# EAGLE library part 66202421122 (library Wuerth_Elektronik_eiCan_08_Micro_Power_Connectors)
WR-MPC3 3.00mm Male Dual Row Vertical Header, 24 Pins
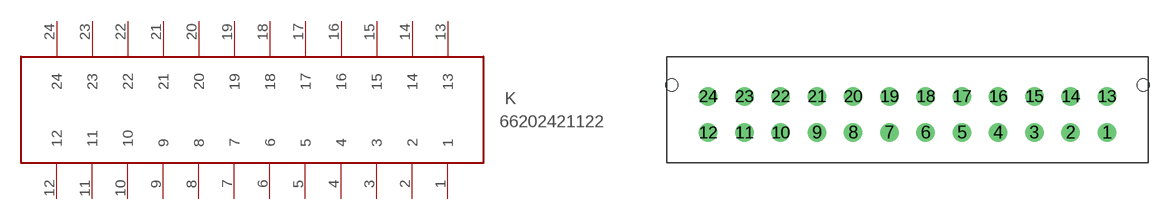
[diagram p9: symbol with the pads of 66202421122; footprint 66202421122]

Designator prefix K

## 66202421122  [66202421122]
1  1
2  2
3  3
4  4
5  5
6  6
7  7
8  8
9  9
10  10
11  11
12  12
13  13
14  14
15  15
16  16
17  17
18  18
19  19
20  20
21  21
22  22
23  23
24  24

## Footprint 66202421122 (pad centres in mm)
WR-MPC3-3.00mm Male Dual Row Vertical Header,24 pins
drill 1.02 round: 1 0,-1.5; 2 -3,-1.5; 3 -6,-1.5; 4 -9,-1.5; 5 -12,-1.5; 6 -15,-1.5; 7 -18,-1.5; 8 -21,-1.5; 9 -24,-1.5; 10 -27,-1.5; 11 -30,-1.5; 12 -33,-1.5; 13 0,1.5; 14 -3,1.5; 15 -6,1.5; 16 -9,1.5; 17 -12,1.5; 18 -15,1.5; 19 -18,1.5; 20 -21,1.5; 21 -24,1.5; 22 -27,1.5; 23 -30,1.5; 24 -33,1.5
hole 1.02 at -36,2.44
hole 1.02 at 3,2.44